# Altium schematic symbol library Schlib1.SchLib: 1 symbol
Pins are listed as number, name and electrical type; pins without a type are passive.

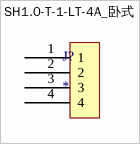
[diagram p0: symbol SH1.0-T-1-LT-4A_卧式]

## SH1.0-T-1-LT-4A_卧式
designator J?
pins: 1, 2, 3, 4